# Altium footprint library PinHeader.PcbLib: 118 footprints (part 1 of 8)
Each footprint in its own frame and in the unit in brackets; x right, y up, seen from the top. Pads: shape width x height; smd on the part's side, far side on the other; paste and mask are expansions set on the pad; w line width, h text height; cw(c..) or ccw(c..) is an arc to the next point about the centre after c.
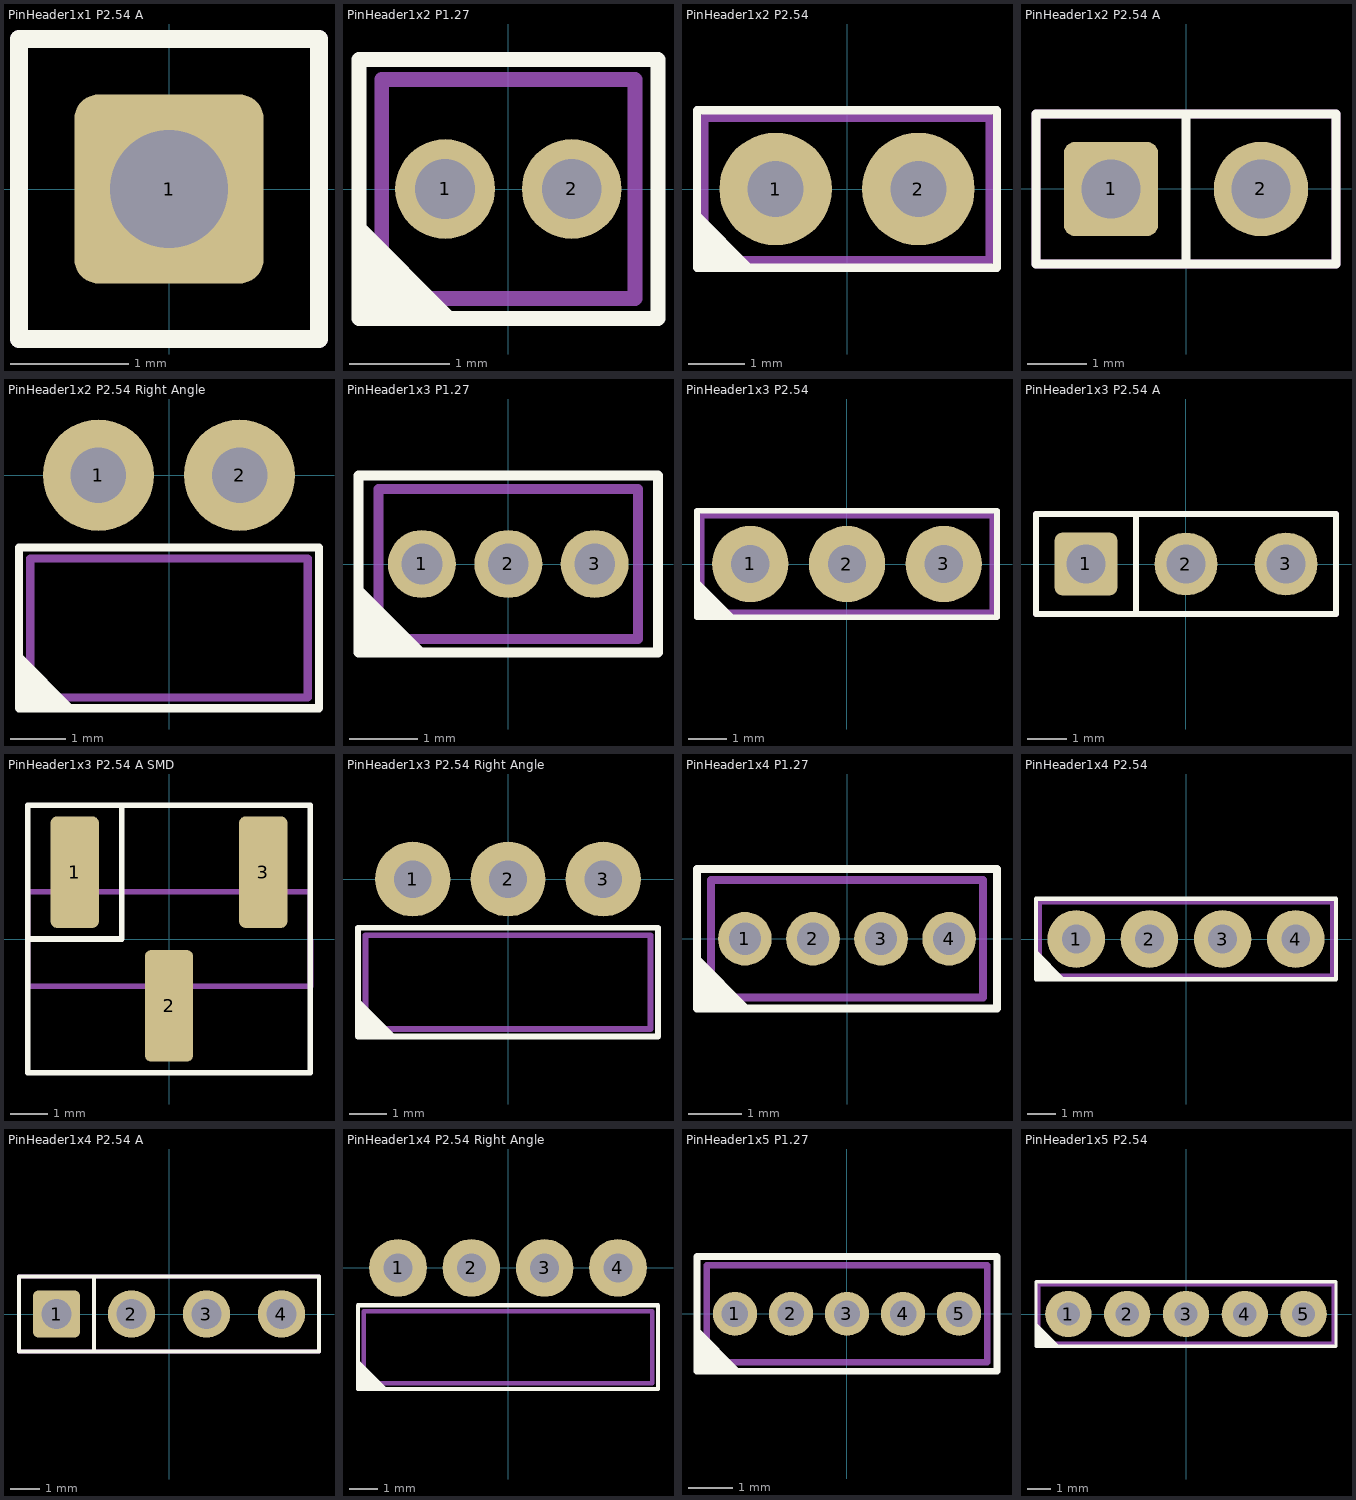
[diagram p0: the footprints below, top view; thin cyan lines are the x and y axes]

## PinHeader1x1 P2.54 A [mm] "Plug connector"
height 8.5
pads (1):
  rrect25% 1.6x1.6 hole 1: 1(0,0)
Top Overlay:
  lines w0.15: -1.27,-1.27 -1.27,1.27 1.27,1.27 1.27,-1.27 -1.27,-1.27
Mechanical 13:
  lines w0.15: -1.27,-1.27 1.27,-1.27 1.27,1.27 -1.27,1.27 -1.27,-1.27
3D body: height 2.5, standoff 0.1, extent -1.27,-1.27 1.27,1.27
3D body: height 8.5, standoff 2.6, extent -0.318,-0.318 0.318,0.318

## PinHeader1x2 P1.27 [mm] "Plug connector"
height 4
pads (2):
  round 1 hole 0.6: 1(-0.635,0) 2(0.635,0)
Top Overlay:
  region: -1.508,-1.3 -1.508,-0.284 -0.492,-1.3
  lines w0.15: -1.5,-1.3 -1.5,1.3 1.5,1.3 1.5,-1.3 -1.5,-1.3
Mechanical 13:
  lines w0.15: -1.27,-1.1 1.27,-1.1 1.27,1.1 -1.27,1.1 -1.27,-1.1
3D body: height 4, standoff -2.3, extent 0.435,-0.2 0.835,0.2
3D body: height 4, standoff -2.3, extent -0.835,-0.2 -0.435,0.2
3D body: height 1, standoff 0, extent -1.27,-1.1 1.27,1.1

## PinHeader1x2 P2.54 [mm] "Plug connector"
height 8.5
pads (2):
  round 2 hole 1: 1(-1.27,0) 2(1.27,0)
Top Overlay:
  region: -2.667,-1.397 -2.667,-0.381 -1.651,-1.397
  lines w0.15: -2.667,-1.397 2.667,-1.397 2.667,1.397 -2.667,1.397 -2.667,-1.397
Mechanical 13:
  lines w0.15: -2.54,-1.27 -2.54,1.27 2.54,1.27 2.54,-1.27 -2.54,-1.27
3D body: height 8.5, standoff -2.5, extent 0.89,-0.38 1.65,0.38
3D body: height 8.5, standoff -2.5, extent -1.65,-0.38 -0.89,0.38
3D body: height 2.54, standoff 0, extent -2.615,-1.27 2.615,1.27

## PinHeader1x2 P2.54 A [mm] "Plug connector"
height 8.5
pads (2):
  rrect25% 1.6x1.6 hole 1: 1(-1.27,0)
  round 1.6 hole 1: 2(1.27,0)
Top Overlay:
  lines w0.15: 0,-1.27 0,1.27 ; -2.54,-1.27 -2.54,1.27 2.54,1.27 2.54,-1.27 -2.54,-1.27
Mechanical 13:
  lines w0.15: -2.54,-1.27 2.54,-1.27 2.54,1.27 -2.54,1.27 -2.54,-1.27
3D body: height 2.5, standoff 0.1, extent -2.54,-1.27 2.54,1.27
3D body: height 8.5, standoff 2.6, extent -1.587,-0.318 1.587,0.318

## PinHeader1x2 P2.54 Right Angle [mm] "Plug connector"
height 2.4
pads (2):
  round 2 hole 1: 1(-1.27,0) 2(1.27,0)
Top Overlay:
  region: -2.7,-4.197 -2.7,-3.181 -1.684,-4.197
  lines w0.15: -2.7,-4.197 -2.7,-1.3 2.7,-1.3 2.7,-4.197 -2.7,-4.197
Mechanical 13:
  lines w0.15: -2.5,-4 -2.5,-1.5 2.5,-1.5 2.5,-4 -2.5,-4
3D body: height 1.55, standoff -2.5, extent 0.97,-0.3 1.57,0.3
3D body: height 1.55, standoff 0.95, extent 0.97,-10 1.57,0
3D body: height 1.55, standoff 0.95, extent -1.57,-10 -0.97,0
3D body: height 2.4, standoff 0, extent -2.5,-4 2.5,-1.5
3D body: height 1.55, standoff -2.5, extent -1.57,-0.3 -0.97,0.3

## PinHeader1x3 P1.27 [mm] "Plug connector"
height 4
pads (3):
  round 1 hole 0.6: 1(-1.27,0) 2(0,0) 3(1.27,0)
Top Overlay:
  region: -2.208,-1.3 -2.208,-0.284 -1.192,-1.3
  lines w0.15: -2.2,-1.3 2.2,-1.3 2.2,1.3 -2.2,1.3 -2.2,-1.3
Mechanical 13:
  lines w0.15: -1.905,-1.1 -1.905,1.1 1.905,1.1 1.905,-1.1 -1.905,-1.1
3D body: height 1, standoff 0, extent -1.905,-1.1 1.905,1.1
3D body: height 4, standoff -2.3, extent -1.47,-0.2 -1.07,0.2
3D body: height 4, standoff -2.3, extent -0.2,-0.2 0.2,0.2
3D body: height 4, standoff -2.3, extent 1.07,-0.2 1.47,0.2

## PinHeader1x3 P2.54 [mm] "Plug connector"
height 8.5
pads (3):
  round 2 hole 1: 1(-2.54,0) 2(0,0) 3(2.54,0)
Top Overlay:
  region: -3.937,-1.397 -3.937,-0.381 -2.921,-1.397
  lines w0.15: -3.937,-1.397 -3.937,1.397 3.937,1.397 3.937,-1.397 -3.937,-1.397
Mechanical 13:
  lines w0.15: -3.81,-1.27 3.81,-1.27 3.81,1.27 -3.81,1.27 -3.81,-1.27
3D body: height 2.54, standoff 0, extent -3.885,-1.27 3.735,1.27
3D body: height 8.5, standoff -2.5, extent -2.92,-0.38 -2.16,0.38
3D body: height 8.5, standoff -2.5, extent 2.16,-0.38 2.921,0.38
3D body: height 8.5, standoff -2.5, extent -0.38,-0.38 0.38,0.38

## PinHeader1x3 P2.54 A [mm] "Plug connector"
height 8.5
pads (3):
  rrect25% 1.6x1.6 hole 1: 1(-2.54,0)
  round 1.6 hole 1: 2(0,0) 3(2.54,0)
Top Overlay:
  lines w0.15: -1.27,-1.27 -1.27,1.27 ; -3.81,-1.27 3.81,-1.27 3.81,1.27 -3.81,1.27 -3.81,-1.27
Mechanical 13:
  lines w0.15: -3.81,-1.27 -3.81,1.27 3.81,1.27 3.81,-1.27 -3.81,-1.27
3D body: height 8.5, standoff 2.6, extent -2.857,-0.318 2.857,0.318
3D body: height 2.5, standoff 0.1, extent -3.81,-1.27 3.81,1.27

## PinHeader1x3 P2.54 A SMD [mm] "Plug connector SMD"
height 10.81
pads (3):
  rrect25% 1.3x3 smd: 1(-2.54,1.8) 2(0,-1.8) 3(2.54,1.8)
Top Overlay:
  lines w0.15: -3.81,0 -1.27,0 -1.27,3.6 ; -3.81,-3.6 3.81,-3.6 3.81,3.6 -3.81,3.6 -3.81,-3.6
Mechanical 13:
  lines w0.15: -3.81,-1.27 -3.81,1.27 3.81,1.27 3.81,-1.27 -3.81,-1.27
3D body: height 10.81, standoff 2.6, extent -2.857,-0.318 2.857,0.318
3D body: height 2.5, standoff 0.1, extent -3.81,-1.27 3.81,1.27

## PinHeader1x3 P2.54 Right Angle [mm] "Plug connector"
height 2.4
pads (3):
  round 2 hole 1: 1(-2.54,0) 2(0,0) 3(2.54,0)
Top Overlay:
  region: -4,-4.197 -4,-3.181 -2.984,-4.197
  lines w0.15: -4,-4.197 -4,-1.3 4,-1.3 4,-4.197 -4,-4.197
Mechanical 13:
  lines w0.15: -3.8,-4 -3.8,-1.5 3.8,-1.5 3.8,-4 -3.8,-4
3D body: height 1.55, standoff -2.5, extent -0.3,-0.3 0.3,0.3
3D body: height 1.55, standoff 0.95, extent -0.3,-10 0.3,0
3D body: height 1.55, standoff 0.95, extent -2.84,-10 -2.24,0
3D body: height 2.4, standoff 0, extent -3.77,-4 3.8,-1.5
3D body: height 1.55, standoff -2.5, extent -2.84,-0.3 -2.24,0.3
3D body: height 1.55, standoff 0.95, extent 2.24,-10 2.84,0
3D body: height 1.55, standoff -2.5, extent 2.24,-0.3 2.84,0.3

## PinHeader1x4 P1.27 [mm] "Plug connector"
height 4
pads (4):
  round 1 hole 0.6: 1(-1.905,0) 2(-0.635,0) 3(0.635,0) 4(1.905,0)
Top Overlay:
  region: -2.8,-1.308 -2.8,-0.292 -1.784,-1.308
  lines w0.15: -2.8,-1.3 -2.8,1.3 2.8,1.3 2.8,-1.3 -2.8,-1.3
Mechanical 13:
  lines w0.15: -2.54,-1.1 2.54,-1.1 2.54,1.1 -2.54,1.1 -2.54,-1.1
3D body: height 4, standoff -2.3, extent 1.705,-0.2 2.105,0.2
3D body: height 4, standoff -2.3, extent 0.435,-0.2 0.835,0.2
3D body: height 4, standoff -2.3, extent -0.835,-0.2 -0.435,0.2
3D body: height 4, standoff -2.3, extent -2.105,-0.2 -1.705,0.2
3D body: height 1, standoff 0, extent -2.54,-1.1 2.54,1.1

## PinHeader1x4 P2.54 [mm] "Plug connector"
height 8.5
pads (4):
  round 2 hole 1: 1(-3.81,0) 2(-1.27,0) 3(1.27,0) 4(3.81,0)
Top Overlay:
  region: -5.207,-1.397 -5.207,-0.381 -4.191,-1.397
  lines w0.15: -5.207,-1.397 5.207,-1.397 5.207,1.397 -5.207,1.397 -5.207,-1.397
Mechanical 13:
  lines w0.15: -5.08,-1.27 -5.08,1.27 5.08,1.27 5.08,-1.27 -5.08,-1.27
3D body: height 8.5, standoff -2.5, extent 0.89,-0.38 1.651,0.38
3D body: height 8.5, standoff -2.5, extent -1.65,-0.38 -0.89,0.38
3D body: height 8.5, standoff -2.5, extent 3.43,-0.38 4.191,0.38
3D body: height 8.5, standoff -2.5, extent -4.19,-0.38 -3.43,0.38
3D body: height 2.54, standoff 0, extent -5.155,-1.27 5.08,1.27

## PinHeader1x4 P2.54 A [mm] "Plug connector"
height 8.5
pads (4):
  rrect25% 1.6x1.6 hole 1: 1(-3.81,0)
  round 1.6 hole 1: 2(-1.27,0) 3(1.27,0) 4(3.81,0)
Top Overlay:
  lines w0.15: -2.54,-1.27 -2.54,1.27 ; -5.08,-1.27 -5.08,1.27 5.08,1.27 5.08,-1.27 -5.08,-1.27
Mechanical 13:
  lines w0.15: -5.08,-1.27 5.08,-1.27 5.08,1.27 -5.08,1.27 -5.08,-1.27
3D body: height 2.5, standoff 0.1, extent -5.08,-1.27 5.08,1.27
3D body: height 8.5, standoff 2.6, extent -4.127,-0.318 4.127,0.317

## PinHeader1x4 P2.54 Right Angle [mm] "Plug connector"
height 2.4
pads (4):
  round 2 hole 1: 1(-3.81,0) 2(-1.27,0) 3(1.27,0) 4(3.81,0)
Top Overlay:
  region: -5.2,-4.197 -5.2,-3.181 -4.184,-4.197
  lines w0.15: -5.2,-4.197 -5.2,-1.3 5.2,-1.3 5.2,-4.197 -5.2,-4.197
Mechanical 13:
  lines w0.15: -5,-4 -5,-1.5 5,-1.5 5,-4 -5,-4
3D body: height 1.55, standoff 0.95, extent 3.51,-10 4.11,0
3D body: height 1.55, standoff -2.5, extent 3.51,-0.3 4.11,0.3
3D body: height 1.55, standoff -2.5, extent 0.97,-0.3 1.57,0.3
3D body: height 1.55, standoff 0.95, extent 0.97,-10 1.57,0
3D body: height 1.55, standoff -2.5, extent -4.11,-0.3 -3.51,0.3
3D body: height 2.4, standoff 0, extent -5,-4 5,-1.5
3D body: height 1.55, standoff 0.95, extent -4.11,-10 -3.51,0
3D body: height 1.55, standoff 0.95, extent -1.57,-10 -0.97,0
3D body: height 1.55, standoff -2.5, extent -1.57,-0.3 -0.97,0.3

## PinHeader1x5 P1.27 [mm] "Plug connector"
height 4
pads (5):
  round 1 hole 0.6: 1(-2.54,0) 2(-1.27,0) 3(0,0) 4(1.27,0) 5(2.54,0)
Top Overlay:
  region: -3.4,-1.308 -3.4,-0.292 -2.384,-1.308
  lines w0.15: -3.4,-1.3 -3.4,1.3 3.4,1.3 3.4,-1.3 -3.4,-1.3
Mechanical 13:
  lines w0.15: -3.175,-1.1 3.175,-1.1 3.175,1.1 -3.175,1.1 -3.175,-1.1
3D body: height 4, standoff -2.3, extent 2.34,-0.2 2.74,0.2
3D body: height 4, standoff -2.3, extent 1.07,-0.2 1.47,0.2
3D body: height 4, standoff -2.3, extent -0.2,-0.2 0.2,0.2
3D body: height 4, standoff -2.3, extent -1.47,-0.2 -1.07,0.2
3D body: height 4, standoff -2.3, extent -2.74,-0.2 -2.34,0.2
3D body: height 1, standoff 0, extent -3.175,-1.1 3.175,1.1

## PinHeader1x5 P2.54 [mm] "Plug connector"
height 8.5
pads (5):
  round 2 hole 1: 1(-5.08,0) 2(-2.54,0) 3(0,0) 4(2.54,0) 5(5.08,0)
Top Overlay:
  region: -6.477,-1.397 -6.477,-0.381 -5.461,-1.397
  lines w0.15: -6.477,-1.397 -6.477,1.397 6.477,1.397 6.477,-1.397 -6.477,-1.397
Mechanical 13:
  lines w0.15: -6.35,-1.27 6.35,-1.27 6.35,1.27 -6.35,1.27 -6.35,-1.27
3D body: height 2.54, standoff 0, extent -6.425,-1.27 6.35,1.27
3D body: height 8.5, standoff -2.5, extent -5.46,-0.38 -4.7,0.38
3D body: height 8.5, standoff -2.5, extent 4.7,-0.38 5.461,0.38
3D body: height 8.5, standoff -2.5, extent -2.92,-0.38 -2.16,0.38
3D body: height 8.5, standoff -2.5, extent -0.38,-0.38 0.381,0.38
3D body: height 8.5, standoff -2.5, extent 2.16,-0.38 2.921,0.38